# Altium schematic symbol library Inductor.SchLib: 15 symbols
Pins are listed as number, name and electrical type; pins without a type are passive.

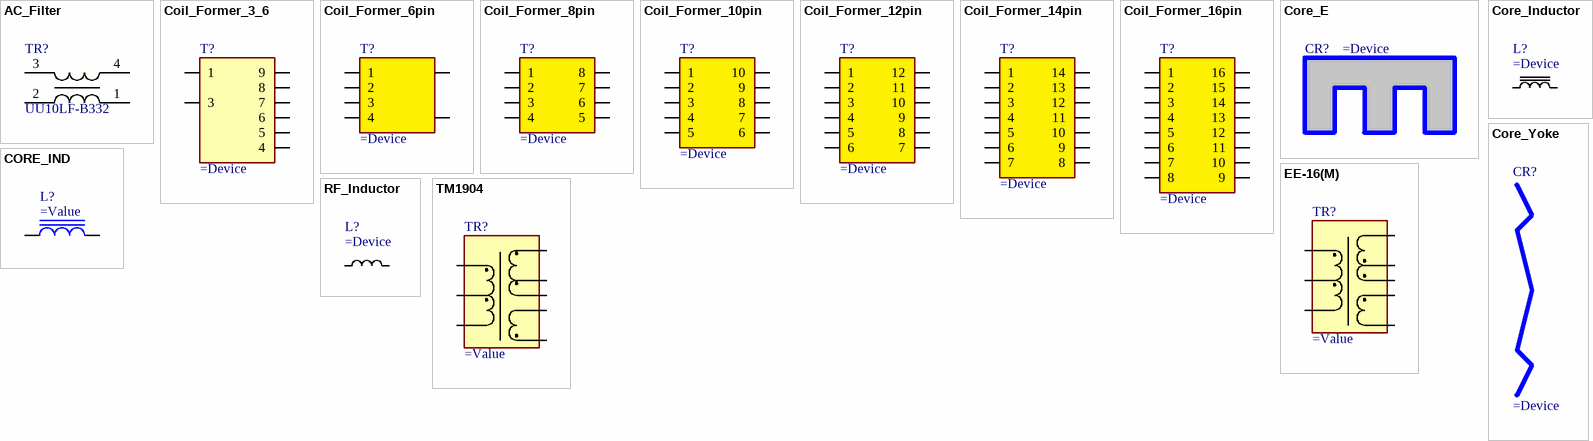
[diagram p0: symbols AC_Filter to TM1904]

## AC_Filter
designator TR?  PartNumber: UU10LF-B332
footprint UU10LF
pins: 1, 2, 3, 4

## Coil_Former_3_6
designator T?
pins: 1, 3, 4, 5, 6, 7, 8, 9

## Coil_Former_6pin
designator T?
pins: 1, 2, 3, 4, 5, 6

## Coil_Former_8pin
designator T?
pins: 1, 2, 3, 4, 5, 6, 7, 8

## Coil_Former_10pin
designator T?
pins: 1, 2, 3, 4, 5, 6, 7, 8, 9, 10

## Coil_Former_12pin
designator T?
pins: 1, 2, 3, 4, 5, 6, 7, 8, 9, 10, 11, 12

## Coil_Former_14pin
designator T?
pins: 1, 2, 3, 4, 5, 6, 7, 8, 9, 10, 11, 12, 13, 14

## Coil_Former_16pin
designator T?
pins: 1, 2, 3, 4, 5, 6, 7, 8, 9, 10, 11, 12, 13, 14, 15, 16

## Core_E
designator CR?

## CORE_IND
designator L?
pins: 1, 2

## Core_Inductor
designator L?
pins: 1, 2

## Core_Yoke
designator CR?

## EE-16(M)
designator TR?
pins: 1, 2, 3, 4, 5, 6, 7, 8

## RF_Inductor
designator L?
pins: 1, 2

## TM1904
designator TR?
pins: 2, 3, 4, 6, 7, 8, 9, 10